# Altium footprint library ES_Pcb_x.PcbLib: 354 footprints (part 3 of 23)
Each footprint in its own frame and in the unit in brackets; x right, y up, seen from the top. Pads: shape width x height; smd on the part's side, far side on the other; paste and mask are expansions set on the pad; w line width, h text height; cw(c..) or ccw(c..) is an arc to the next point about the centre after c.
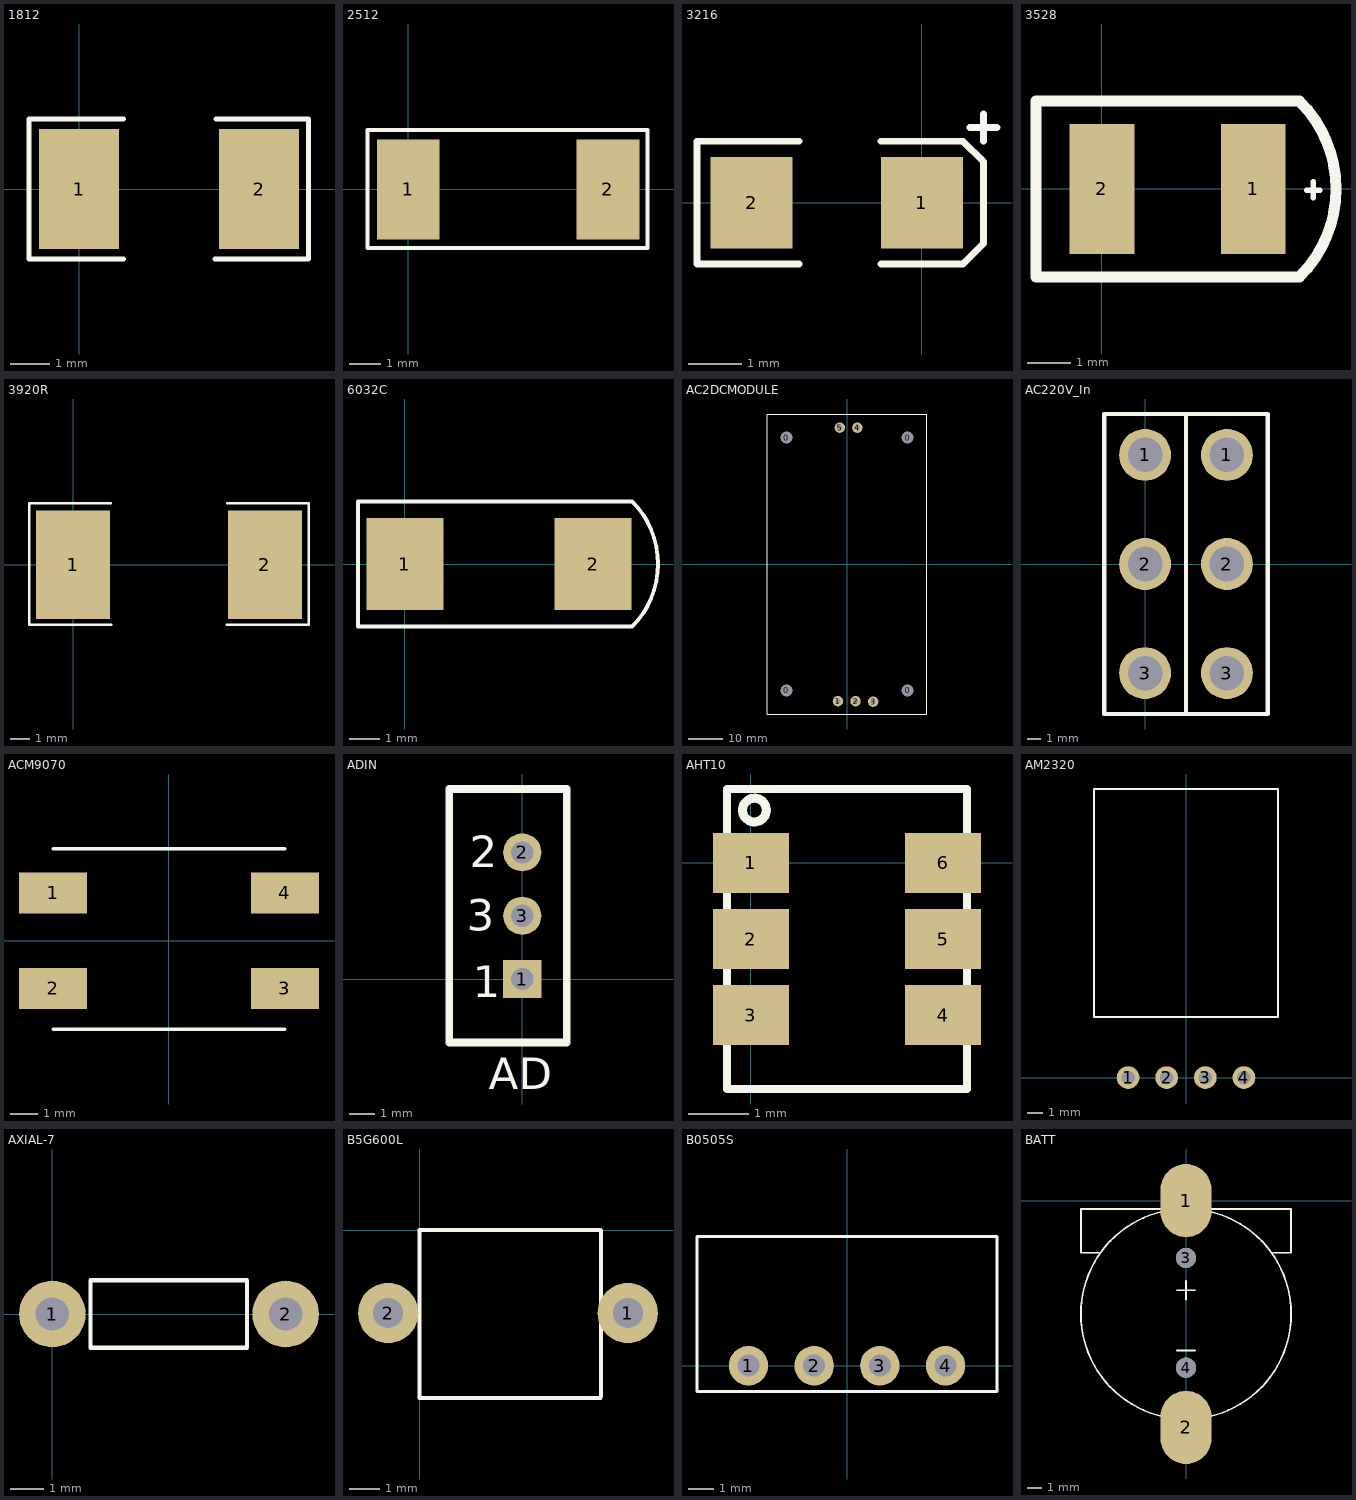
[diagram p2: the footprints below, top view; thin cyan lines are the x and y axes]

## 1812 [mil]
pads (2):
  rect 80x120 smd: 1(0,0) 2(180,0)
Top Overlay:
  lines w5: -50.2,-70 44.29,-70 ; -50.2,-69.88 -50.2,69.88 ; -50.2,70 44.29,70 ; 135.83,-70 229.33,-70 ; 136.81,70 229.33,70 ; 229.33,-69.88 229.33,68.9

## 2512 [mm]
pads (2):
  rect 2x3.2 smd: 1(0,0) 2(6.4,0)
Top Overlay:
  lines w0.127: -1.295,-1.88 -1.295,1.905 7.671,1.905 7.671,-1.88 ; -1.27,-1.88 7.645,-1.88

## 3216 [mm]
pads (2):
  rect 1.524x1.7 smd: 1(0,0) 2(-3.175,0)
Top Overlay:
  lines w0.127: -2.286,-1.143 -4.191,-1.143 -4.191,1.143 -2.286,1.143 ; -0.762,-1.143 0.762,-1.143 1.143,-0.762 1.143,0.762 0.762,1.143 -0.762,1.143 ; 0.889,1.397 1.397,1.397 ; 1.143,1.143 1.143,1.651

## 3528 [mm]
pads (2):
  rect 1.5x3 smd: 1(3.5,0) 2(0,0)
Top Overlay:
  lines w0.127: 4.735,-0.027 5.035,-0.027 ; 4.885,-0.202 4.885,0.173
  lines w0.254: -1.524,-2.032 4.572,-2.032 ccw(c2.54,0) 4.572,2.032 -1.524,2.032 -1.524,-2.032

## 3920R [mil]
pads (2):
  rect 150x220 smd: 1(0,0) 2(390,0)
Top Overlay:
  lines w5: 76.77,125 -89.57,125 -89.57,-122.05 77.76,-122.05 ; 312.01,-122.05 479.33,-122.05 479.33,125 312.99,125

## 6032C [mm]
pads (2):
  rect 2.5x3 smd: 1(0,0) 2(6.1,0)
Top Overlay:
  lines w0.127: -1.524,-2.032 -1.524,2.032 7.366,2.032 cw(c5.334,0) 7.366,-2.032 -1.524,-2.032

## AC2DCMODULE [mm]
pads (9):
  round 3 hole 3.5: 0(-17.5,-36.5) 0(-17.5,36.5) 0(17.5,-36.5) 0(17.5,36.5)
  round 3 hole 1.5: 1(-2.616,-39.599) 2(2.464,-39.599) 3(7.544,-39.726) 4(2.997,39.345) 5(-2.083,39.345)
Top Overlay:
  lines w0.127: -23,-43.3 -23,43.3 23,43.3 23,-43.3 -23,-43.3

## AC220V_In [mm]
pads (6):
  round 3.81 hole 2.54: 1(0,8) 1(5.994,8) 2(0,0) 2(5.994,0) 3(0,-8) 3(5.994,-8)
Top Overlay:
  lines w0.3: -3,-11 -3,11 3,11 3,-11 -3,-11 ; 2.994,-11 8.994,-11 8.994,11 2.994,11 2.994,-11

## ACM9070 [mm]
pads (4):
  rect 2.5x1.5 smd: 1(-4.25,1.75) 2(-4.25,-1.75) 3(4.25,-1.75) 4(4.25,1.75)
Top Overlay:
  lines w0.127: -4.25,-3.25 4.25,-3.25 ; -4.25,3.375 4.25,3.375

## ADIN [mil]
pads (3):
  rect 60x60 hole 35: 1(0,0)
  round 60 hole 35: 2(0,200) 3(0,100)
Top Overlay:
  lines w12: -115,-100 -115,300 70,300 70,-100 -115,-100
  text "AD" at -52.83,-173.39 h50
  text "1" at -77.83,-28.39 h50
  text "3" at -87.83,76.61 h50
  text "2" at -82.83,176.61 h50

## AHT10 [mm]
pads (6):
  rect 1.27x1 smd: 1(0,0) 2(0,-1.27) 3(0,-2.54) 4(3.2,-2.54) 5(3.2,-1.27) 6(3.2,0)
Top Overlay:
  circle w0.15: c0.057,0.878 r0.198
  lines w0.127: -0.4,-3.77 -0.4,1.23 3.6,1.23 3.6,-3.77 -0.4,-3.77

## AM2320 [mm]
pads (4):
  round 1.5 hole 0.9: 1(-3.81,0) 2(-1.27,0) 3(1.27,0) 4(3.81,0)
Top Overlay:
  lines w0.127: -6.05,4 -6.05,19 6.05,19 6.05,4 -6.05,4

## AXIAL-7 [mm]
pads (2):
  round 2 hole 1: 1(0,0) 2(7,0)
Top Overlay:
  lines w0.127: 1.143,-1.016 5.842,-1.016 5.842,1.016 1.143,1.016 1.143,-1.016

## B5G600L [mm] "陶瓷气体放电管"
pads (2):
  round 2 hole 1: 1(6.909,-2.75) 2(-1.041,-2.75)
Top Overlay:
  lines w0.127: 0,-5.563 6,-5.563 ; 0,-5.512 0,-0.012 ; 0,0 6,0 ; 6.02,-5.512 6.02,-0.012

## B0505S [mil]
pads (4):
  round 60 hole 33.46: 1(-150,0) 2(-50,0) 3(50,0) 4(150,0)
Top Overlay:
  lines w5: -228.35,-39.37 -228.35,196.85 228.35,196.85 228.35,-39.37 -228.35,-39.37

## BATT [mm]
pads (4):
  oval 3.556x5.08 smd: 1(0,0) 2(0,-15.748)
  round 1.4 hole 1.4: 3(0,-3.984) 4(0,-11.604)
Top Overlay:
  circle w0.127: c0,-7.874 r7.3
  lines w0.127: -6.028,-3.624 -7.3,-3.624 -7.3,-0.574 0,-0.574 7.3,-0.574 7.3,-3.624 6.028,-3.624 ; -0.635,-10.414 0.635,-10.414 ; -0.635,-6.223 0.635,-6.223 ; 0,-6.858 0,-5.588